# Altium schematic symbol library Conn,JST,4Pin,2.5mm.Schlib: 1 symbol
Pins are listed as number, name and electrical type; pins without a type are passive.

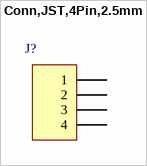
[diagram p0: symbol Conn,JST,4Pin,2.5mm]

## Conn,JST,4Pin,2.5mm
designator J?
pins: 1, 2, 3, 4